# EAGLE library part A1084-B_GPS_VINCOTECH_RCVR_MDL (library Vincotech_GPS_Modules)
A1084-B GPS RCVR MDL VONCOTECH ROSH compliant
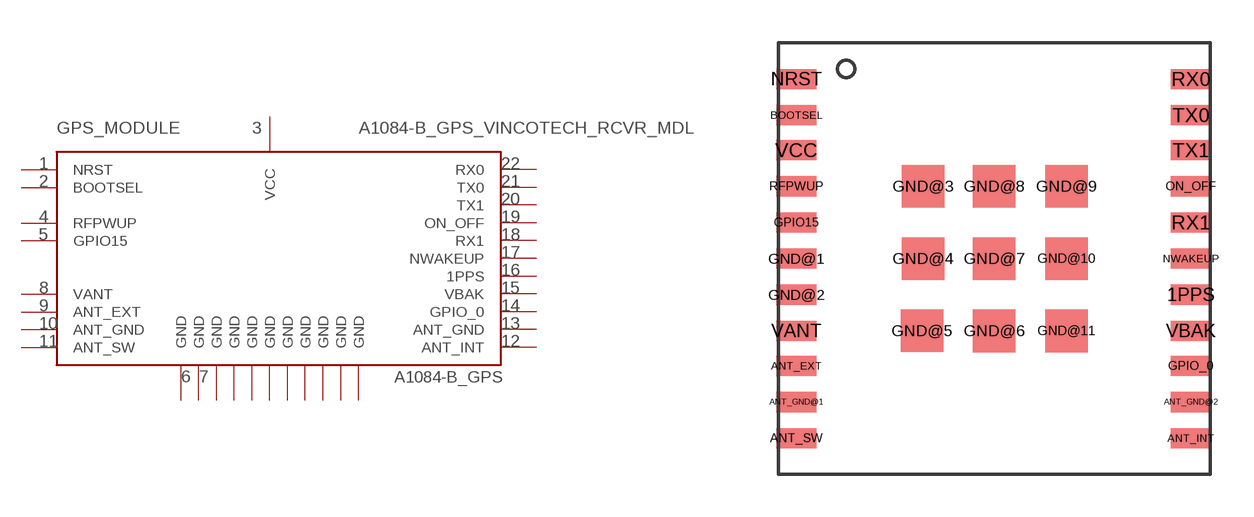
[diagram p0: symbol with the pads of A1084-B_GPS_VINCOTECH; footprint A1084-B_GPS_VINCOTECH]

Designator prefix GPS_MODULE

## A1084-B_GPS_VINCOTECH_RCVR_MDL  [A1084-B_GPS_VINCOTECH]
1PPS  1PPS  out
ANT_EXT  ANT_EXT  in
ANT_GND@1  ANT_GND  sup
ANT_GND@2  ANT_GND  sup
ANT_INT  ANT_INT  in
ANT_SW  ANT_SW  in
BOOTSEL  BOOTSEL  in
GND@1  GND  sup
GND@2  GND  sup
GND@3  GND  sup
GND@4  GND  sup
GND@5  GND  sup
GND@6  GND  sup
GND@7  GND  sup
GND@8  GND  sup
GND@9  GND  sup
GND@10  GND  sup
GND@11  GND  sup
GPIO15  GPIO15  nc
GPIO_0  GPIO_0  out
NRST  NRST  in
NWAKEUP  NWAKEUP  out
ON_OFF  ON_OFF  in
RFPWUP  RFPWUP  out
RX0  RX0  in
RX1  RX1  in
TX0  TX0  out
TX1  TX1  out
VANT  VANT  sup
VBAK  VBAK  pwr
VCC  VCC  pwr

## Footprint A1084-B_GPS_VINCOTECH (pad centres in mm)
smd 1.422 x 0.711: 1PPS 14.559,6.341; ANT_EXT 0.638,3.829; ANT_GND@1 0.638,2.552; ANT_GND@2 14.559,2.552; ANT_INT 14.559,1.276; ANT_SW 0.638,1.276; BOOTSEL 0.638,12.682; GND@1 0.638,7.617; GND@2 0.638,6.341; GPIO15 0.638,8.893; GPIO_0 14.559,3.829; NRST 0.638,13.958; NWAKEUP 14.559,7.617; ON_OFF 14.559,10.17; RFPWUP 0.638,10.17; RX0 14.559,13.958; RX1 14.559,8.893; TX0 14.559,12.682; TX1 14.559,11.446; VANT 0.638,5.065; VBAK 14.559,5.065; VCC 0.638,11.446
smd 1.5 x 1.5: GND@3 5.106,10.17; GND@4 5.106,7.617; GND@5 5.07,5.066; GND@6 7.619,5.065; GND@7 7.619,7.617; GND@8 7.619,10.17; GND@9 10.171,10.17; GND@10 10.171,7.617; GND@11 10.171,5.065